# EAGLE library part PIC32-44 (library lib)
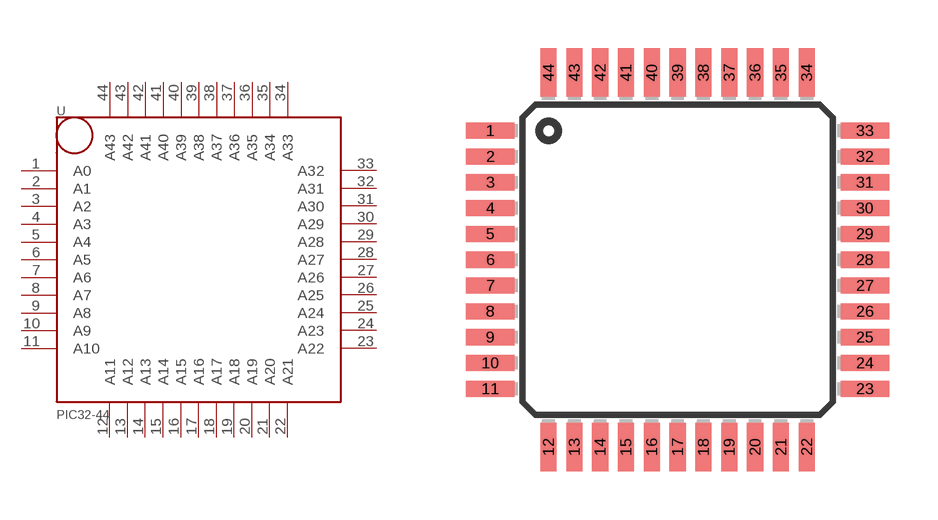
[diagram p0: symbol with the pads of TQFP44; footprint TQFP44]

Designator prefix -

## PIC32-44  [TQFP44]
1  A0
2  A1
3  A2
4  A3
5  A4
6  A5
7  A6
8  A7
9  A8
10  A9
11  A10
12  A11
13  A12
14  A13
15  A14
16  A15
17  A16
18  A17
19  A18
20  A19
21  A20
22  A21
23  A22
24  A23
25  A24
26  A25
27  A26
28  A27
29  A28
30  A29
31  A30
32  A31
33  A32
34  A33
35  A34
36  A35
37  A36
38  A37
39  A38
40  A39
41  A40
42  A41
43  A42
44  A43

## Footprint TQFP44 (pad centres in mm)
Thin Quad Flat Pack package type TQ
smd 1.5 x 0.5: 1 -5.8,4; 2 -5.8,3.2; 3 -5.8,2.4; 4 -5.8,1.6; 5 -5.8,0.8; 6 -5.8,0; 7 -5.8,-0.8; 8 -5.8,-1.6; 9 -5.8,-2.4; 10 -5.8,-3.2; 11 -5.8,-4; 23 5.8,-4; 24 5.8,-3.2; 25 5.8,-2.4; 26 5.8,-1.6; 27 5.8,-0.8; 28 5.8,0; 29 5.8,0.8; 30 5.8,1.6; 31 5.8,2.4; 32 5.8,3.2; 33 5.8,4
smd 0.5 x 1.5: 12 -4,-5.8; 13 -3.2,-5.8; 14 -2.4,-5.8; 15 -1.6,-5.8; 16 -0.8,-5.8; 17 0,-5.8; 18 0.8,-5.8; 19 1.6,-5.8; 20 2.4,-5.8; 21 3.2,-5.8; 22 4,-5.8; 34 4,5.8; 35 3.2,5.8; 36 2.4,5.8; 37 1.6,5.8; 38 0.8,5.8; 39 0,5.8; 40 -0.8,5.8; 41 -1.6,5.8; 42 -2.4,5.8; 43 -3.2,5.8; 44 -4,5.8